# EAGLE library part H2-H6-OUTBOARD-CSK-BUS-CONN (library gwu_mpnl_ucat_v10)
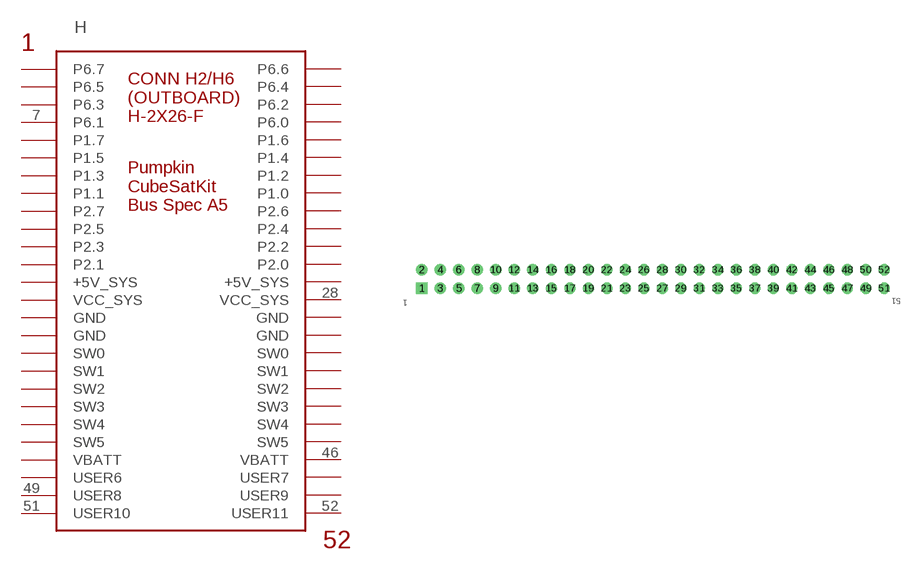
[diagram p10: symbol with the pads of CONN-2X26X0.1-HDR; footprint CONN-2X26X0.1-HDR]

Designator prefix H

## H2-H6-OUTBOARD-CSK-BUS-CONN (MF: SAMTEC; MPN: ESQ-126-39-G-D)  [CONN-2X26X0.1-HDR]
1  P6.7
2  P6.6
3  P6.5
4  P6.4
5  P6.3
6  P6.2
7  P6.1
8  P6.0
9  P1.7
10  P1.6
11  P1.5
12  P1.4
13  P1.3
14  P1.2
15  P1.1
16  P1.0
17  P2.7
18  P2.6
19  P2.5
20  P2.4
21  P2.3
22  P2.2
23  P2.1
24  P2.0
25  +5V_SYS
26  +5V_SYS
27  VCC_SYS
28  VCC_SYS
29  GND
30  GND
31  GND
32  GND
33  SW0
34  SW0
35  SW1
36  SW1
37  SW2
38  SW2
39  SW3
40  SW3
41  SW4
42  SW4
43  SW5
44  SW5
45  VBATT
46  VBATT
47  USER6
48  USER7
49  USER8
50  USER9
51  USER10
52  USER11

## Footprint CONN-2X26X0.1-HDR (pad centres in mm)
drill 1.016 pad 1.524 square: 1 0,0
drill 1.016 pad 1.524: 2 0,2.54; 3 2.54,0; 4 2.54,2.54; 5 5.08,0; 6 5.08,2.54; 7 7.62,0; 8 7.62,2.54; 9 10.16,0; 10 10.16,2.54; 11 12.7,0; 12 12.7,2.54; 13 15.24,0; 14 15.24,2.54; 15 17.78,0; 16 17.78,2.54; 17 20.32,0; 18 20.32,2.54; 19 22.86,0; 20 22.86,2.54; 21 25.4,0; 22 25.4,2.54; 23 27.94,0; 24 27.94,2.54; 25 30.48,0; 26 30.48,2.54; 27 33.02,0; 28 33.02,2.54; 29 35.56,0; 30 35.56,2.54; 31 38.1,0; 32 38.1,2.54; 33 40.64,0; 34 40.64,2.54; 35 43.18,0; 36 43.18,2.54; 37 45.72,0; 38 45.72,2.54; 39 48.26,0; 40 48.26,2.54; 41 50.8,0; 42 50.8,2.54; 43 53.34,0; 44 53.34,2.54; 45 55.88,0; 46 55.88,2.54; 47 58.42,0; 48 58.42,2.54; 49 60.96,0; 50 60.96,2.54; 51 63.5,0; 52 63.5,2.54